# EAGLE library part DPQA1 (library opto)
Quadrant photo diode, common anode with metal case pin
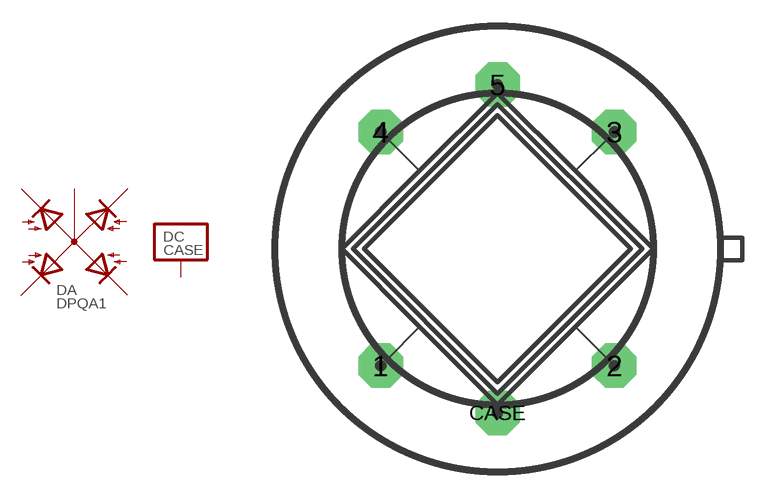
[diagram p2: symbol with the pads of DPQ02; footprint DPQ02]

Designator prefix D; gates A=DPQA1 C=VCASE

## DPQA1  [DPQ02]
1  A:C1  pas
2  A:C2  pas
3  A:C3  pas
4  A:C4  pas
5  A:A  pas
CASE  C:CASE

## Footprint DPQ02 (pad centres in mm)
drill 0.813 pad 2.54 octagon: 1 -6.668,-6.668; 2 6.668,-6.668; 3 6.668,6.668; 4 -6.668,6.668; 5 0,9.366; CASE 0,-9.366